# Altium schematic symbol library MK60DN512ZVLQ10.SchLib: 1 symbol
Pins are listed as number, name and electrical type; pins without a type are passive.

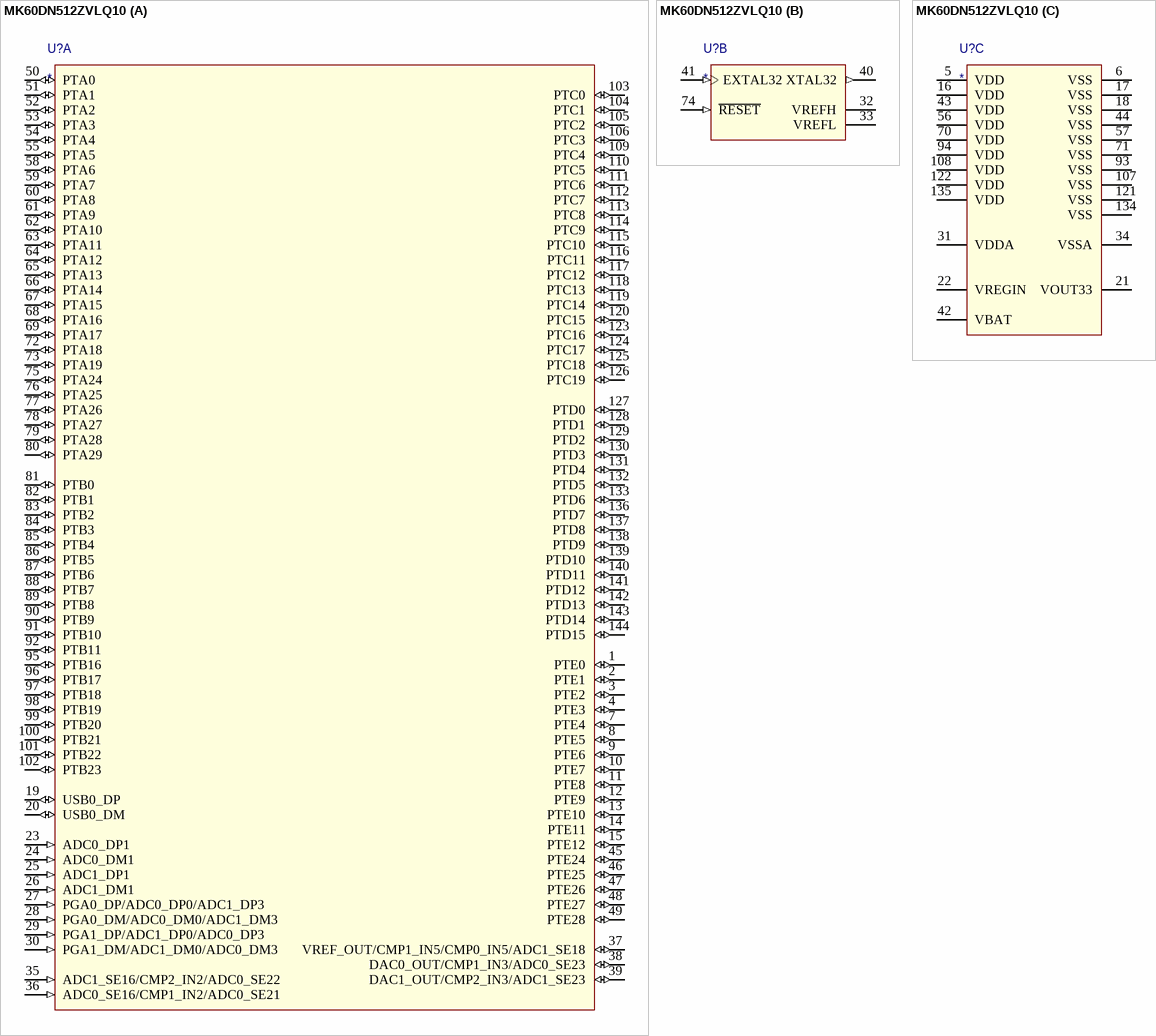
[diagram p0: symbol MK60DN512ZVLQ10]

## MK60DN512ZVLQ10
designator U?
part A pins: 1 PTE0 (io), 2 PTE1 (io), 3 PTE2 (io), 4 PTE3 (io), 7 PTE4 (io), 8 PTE5 (io), 9 PTE6 (io), 10 PTE7 (io), 11 PTE8 (io), 12 PTE9 (io), 13 PTE10 (io), 14 PTE11 (io), 15 PTE12 (io), 19 USB0_DP (io), 20 USB0_DM (io), 23 ADC0_DP1 (in), 24 ADC0_DM1 (in), 25 ADC1_DP1 (in), 26 ADC1_DM1 (in), 27 PGA0_DP/ADC0_DP0/ADC1_DP3 (in), 28 PGA0_DM/ADC0_DM0/ADC1_DM3 (in), 29 PGA1_DP/ADC1_DP0/ADC0_DP3 (in), 30 PGA1_DM/ADC1_DM0/ADC0_DM3 (in), 35 ADC1_SE16/CMP2_IN2/ADC0_SE22 (in), 36 ADC0_SE16/CMP1_IN2/ADC0_SE21 (in), 37 VREF_OUT/CMP1_IN5/CMP0_IN5/ADC1_SE18 (io), 38 DAC0_OUT/CMP1_IN3/ADC0_SE23 (io), 39 DAC1_OUT/CMP2_IN3/ADC1_SE23 (io), 45 PTE24 (io), 46 PTE25 (io), 47 PTE26 (io), 48 PTE27 (io), 49 PTE28 (io), 50 PTA0 (io), 51 PTA1 (io), 52 PTA2 (io), 53 PTA3 (io), 54 PTA4 (io), 55 PTA5 (io), 58 PTA6 (io), 59 PTA7 (io), 60 PTA8 (io), 61 PTA9 (io), 62 PTA10 (io), 63 PTA11 (io), 64 PTA12 (io), 65 PTA13 (io), 66 PTA14 (io), 67 PTA15 (io), 68 PTA16 (io), 69 PTA17 (io), 72 PTA18 (io), 73 PTA19 (io), 75 PTA24 (io), 76 PTA25 (io), 77 PTA26 (io), 78 PTA27 (io), 79 PTA28 (io), 80 PTA29 (io), 81 PTB0 (io), 82 PTB1 (io), 83 PTB2 (io), 84 PTB3 (io), 85 PTB4 (io), 86 PTB5 (io), 87 PTB6 (io), 88 PTB7 (io), 89 PTB8 (io), 90 PTB9 (io), 91 PTB10 (io), 92 PTB11 (io), 95 PTB16 (io), 96 PTB17 (io), 97 PTB18 (io), 98 PTB19 (io), 99 PTB20 (io), 100 PTB21 (io), 101 PTB22 (io), 102 PTB23 (io), 103 PTC0 (io), 104 PTC1 (io), 105 PTC2 (io), 106 PTC3 (io), 109 PTC4 (io), 110 PTC5 (io), 111 PTC6 (io), 112 PTC7 (io), 113 PTC8 (io), 114 PTC9 (io), 115 PTC10 (io), 116 PTC11 (io), 117 PTC12 (io), 118 PTC13 (io), 119 PTC14 (io), 120 PTC15 (io), 123 PTC16 (io), 124 PTC17 (io), 125 PTC18 (io), 126 PTC19 (io), 127 PTD0 (io), 128 PTD1 (io), 129 PTD2 (io), 130 PTD3 (io), 131 PTD4 (io), 132 PTD5 (io), 133 PTD6 (io), 136 PTD7 (io), 137 PTD8 (io), 138 PTD9 (io), 139 PTD10 (io), 140 PTD11 (io), 141 PTD12 (io), 142 PTD13 (io), 143 PTD14 (io), 144 PTD15 (io)
part B pins: 32 VREFH (power), 33 VREFL (power), 40 XTAL32 (out), 41 EXTAL32 (in), 74 ~{RESET} (in)
part C pins: 5 VDD (power), 6 VSS (power), 16 VDD (power), 17 VSS (power), 18 VSS (power), 21 VOUT33 (power), 22 VREGIN (power), 31 VDDA (power), 34 VSSA (power), 42 VBAT (power), 43 VDD (power), 44 VSS (power), 56 VDD (power), 57 VSS (power), 70 VDD (power), 71 VSS (power), 93 VSS (power), 94 VDD (power), 107 VSS (power), 108 VDD (power), 121 VSS (power), 122 VDD (power), 134 VSS (power), 135 VDD (power)